# Altium schematic symbol library AUVic_Schematic_Library_DACs.SchLib: 1 symbol
Pins are listed as number, name and electrical type; pins without a type are passive.

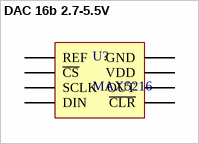
[diagram p0: symbol DAC 16b 2.7-5.5V]

## DAC 16b 2.7-5.5V
designator U?, comment MAX5216
Made By: Andy Bates; Created on: 06/10/2016; Supplier 1: Digikey; Supplier 1 Part Number: MAX5216BGUA+-ND
footprint TSSOP8
pins: 1 REF, 2 ~{CS}, 3 SCLK, 4 DIN, 5 ~{CLR}, 6 OUT, 7 VDD, 8 GND